# Altium schematic symbol library C0603C104K5RACTU.SchLib: 1 symbol
Pins are listed as number, name and electrical type; pins without a type are passive.

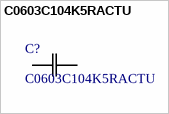
[diagram p0: symbol C0603C104K5RACTU]

## C0603C104K5RACTU
designator C?
SMD Comm X7R, Ceramic, 0.1 uF, 10%, 50 VDC, X7R, SMD, MLCC, Temperature Stable, Class II, 0603; Manufacturer_Name: Kemet; Copyright: Copyright (C) 2026 Ultra Librarian. All rights reserved.; Manufacturer_Part_Number: C0603C104K5RACTU
footprint CAPC17595_95N_KEM
pins: 1, 2